# EAGLE library part PIC18F2*80 (library microchip)
28-Pin Enhanced Flash Microcontrollers with ECAN(TM) Technology 10-Bit A/D and nanoWatt Technology Source: http://www.microchip.com .. 39637a.pdf
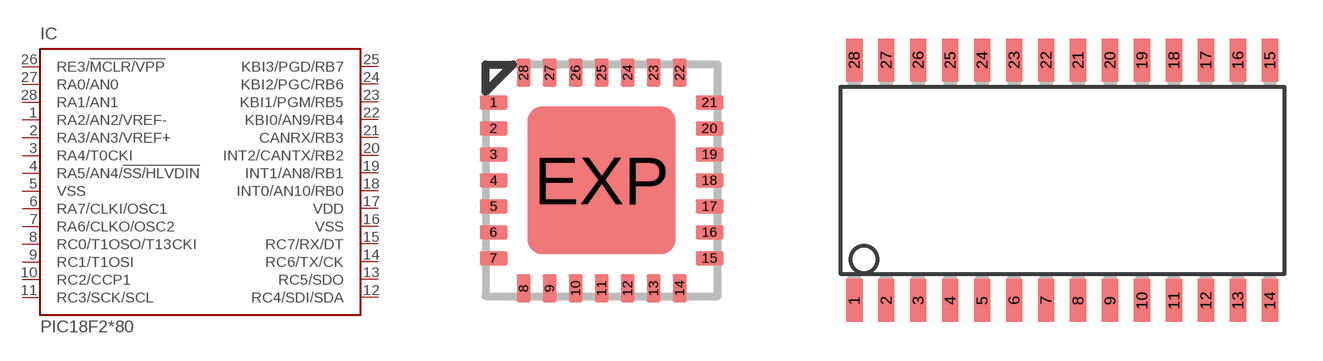
[diagram p41: symbol with the pads of QFN28-ML_6X6MM; footprints QFN28-ML_6X6MM, SO28W]

Designator prefix IC

## PIC18F2480-I/ML (MF: MICROCHIP; MPN: PIC18F2480-I/ML; OC_FARNELL: 1556179; OC_NEWARK: 71J7235), PIC18F2580-I/ML (MF: MICROCHIP; MPN: PIC18F2580-I/ML; OC_FARNELL: 1556180; OC_NEWARK: 71J7242)  [QFN28-ML_6X6MM]
1  RA2/AN2/VREF-
2  RA3/AN3/VREF+
3  RA4/T0CKI
4  RA5/AN4/!SS/HLVDIN
5  VSS  pwr
6  RA7/CLKI/OSC1  in
7  RA6/CLKO/OSC2  out
8  RC0/T1OSO/T13CKI
9  RC1/T1OSI
10  RC2/CCP1
11  RC3/SCK/SCL
12  RC4/SDI/SDA
13  RC5/SDO
14  RC6/TX/CK
15  RC7/RX/DT
16  VSS  pwr
17  VDD  pwr
18  INT0/AN10/RB0
19  INT1/AN8/RB1
20  INT2/CANTX/RB2
21  CANRX/RB3
22  KBI0/AN9/RB4
23  KBI1/PGM/RB5
24  KBI2/PGC/RB6
25  KBI3/PGD/RB7
26  RE3/!MCLR/VPP  in
27  RA0/AN0
28  RA1/AN1

## PIC18F2580-E/SO (MF: MICROCHIP; MPN: PIC18F2580-I/SO; OC_FARNELL: 9321284; OC_NEWARK: 71J7243)  [SO28W]
1  RE3/!MCLR/VPP  in
2  RA0/AN0
3  RA1/AN1
4  RA2/AN2/VREF-
5  RA3/AN3/VREF+
6  RA4/T0CKI
7  RA5/AN4/!SS/HLVDIN
8  VSS  pwr
9  RA7/CLKI/OSC1  in
10  RA6/CLKO/OSC2  out
11  RC0/T1OSO/T13CKI
12  RC1/T1OSI
13  RC2/CCP1
14  RC3/SCK/SCL
15  RC4/SDI/SDA
16  RC5/SDO
17  RC6/TX/CK
18  RC7/RX/DT
19  VSS  pwr
20  VDD  pwr
21  INT0/AN10/RB0
22  INT1/AN8/RB1
23  INT2/CANTX/RB2
24  CANRX/RB3
25  KBI0/AN9/RB4
26  KBI1/PGM/RB5
27  KBI2/PGC/RB6
28  KBI3/PGD/RB7

## PIC18F2480-I/SP (MF: MICROCHIP; MPN: PIC18F2480-I/SP; OC_FARNELL: 9321217; OC_NEWARK: 71J7237), PIC18F2580-I/SP (MF: MICROCHIP; MPN: PIC18F2580-I/SP; OC_FARNELL: 9321276; OC_NEWARK: 71J7244)  [DIL28-3]
Pads as for SO28W

## Footprint QFN28-ML_6X6MM (pad centres in mm)
QFN28-ML_6X6MM Source: http://www.microchip.com .. 39637a.pdf
smd 0.7 x 0.35: 1 -2.7,1.95; 2 -2.7,1.3; 3 -2.7,0.65; 4 -2.7,0; 5 -2.7,-0.65; 6 -2.7,-1.3; 7 -2.7,-1.95; 15 2.7,-1.95; 16 2.7,-1.3; 17 2.7,-0.65; 18 2.7,0; 19 2.7,0.65; 20 2.7,1.3; 21 2.7,1.95
smd 0.35 x 0.7: 8 -1.95,-2.7; 9 -1.3,-2.7; 10 -0.65,-2.7; 11 0,-2.7; 12 0.65,-2.7; 13 1.3,-2.7; 14 1.95,-2.7; 22 1.95,2.7; 23 1.3,2.7; 24 0.65,2.7; 25 0,2.7; 26 -0.65,2.7; 27 -1.3,2.7; 28 -1.95,2.7
smd 3.7 x 3.7: EXP 0,0

## Footprint SO28W (pad centres in mm)
28-Lead Plastic Small Outline (SO) Wide, 300 mil Body (SOIC) Source: http://ww1.microchip.com/downloads/en/devicedoc/39632c.pdf
smd 0.65 x 1.7: 1 -7.62,-4.78; 2 -6.35,-4.78; 3 -5.08,-4.78; 4 -3.81,-4.78; 5 -2.54,-4.78; 6 -1.27,-4.78; 7 0,-4.78; 8 1.27,-4.78; 9 2.54,-4.78; 10 3.81,-4.78; 11 5.08,-4.78; 12 6.35,-4.78; 13 7.62,-4.78; 14 8.89,-4.78; 15 8.89,4.78; 16 7.62,4.78; 17 6.35,4.78; 18 5.08,4.78; 19 3.81,4.78; 20 2.54,4.78; 21 1.27,4.78; 22 0,4.78; 23 -1.27,4.78; 24 -2.54,4.78; 25 -3.81,4.78; 26 -5.08,4.78; 27 -6.35,4.78; 28 -7.62,4.78

## Footprint DIL28-3 (pad centres in mm)
Dual In Line package type P
drill 0.813 long: 1 -16.51,-3.81; 2 -13.97,-3.81; 3 -11.43,-3.81; 4 -8.89,-3.81; 5 -6.35,-3.81; 6 -3.81,-3.81; 7 -1.27,-3.81; 8 1.27,-3.81; 9 3.81,-3.81; 10 6.35,-3.81; 11 8.89,-3.81; 12 11.43,-3.81; 13 13.97,-3.81; 14 16.51,-3.81; 15 16.51,3.81; 16 13.97,3.81; 17 11.43,3.81; 18 8.89,3.81; 19 6.35,3.81; 20 3.81,3.81; 21 1.27,3.81; 22 -1.27,3.81; 23 -3.81,3.81; 24 -6.35,3.81; 25 -8.89,3.81; 26 -11.43,3.81; 27 -13.97,3.81; 28 -16.51,3.81